# EAGLE library part BTDR-1 (library pedals-integrated circuits)
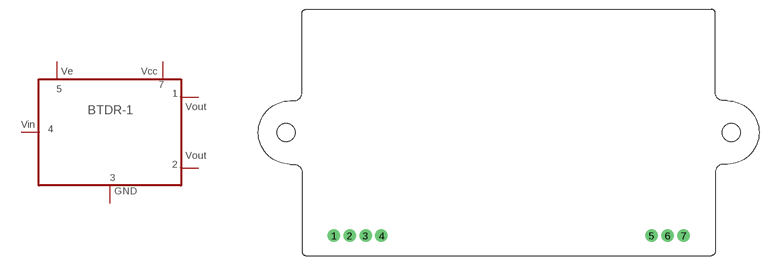
[diagram p4: symbol with the pads of BTDR-1; footprint BTDR-1]

Designator prefix BTDR-1

## BTDR-1  [BTDR-1]
1  1
2  2
3  3
4  4
5  5
7  7

## Footprint BTDR-1 (pad centres in mm)
drill 0.8 pad 2: 1 -27.94,-16.51; 2 -25.4,-16.51; 3 -22.86,-16.51; 4 -20.32,-16.51; 5 22.86,-16.51; 6 25.4,-16.51; 7 27.94,-16.51